# Altium schematic symbol library libSCH.SchLib: 587 symbols (part 5 of 5)
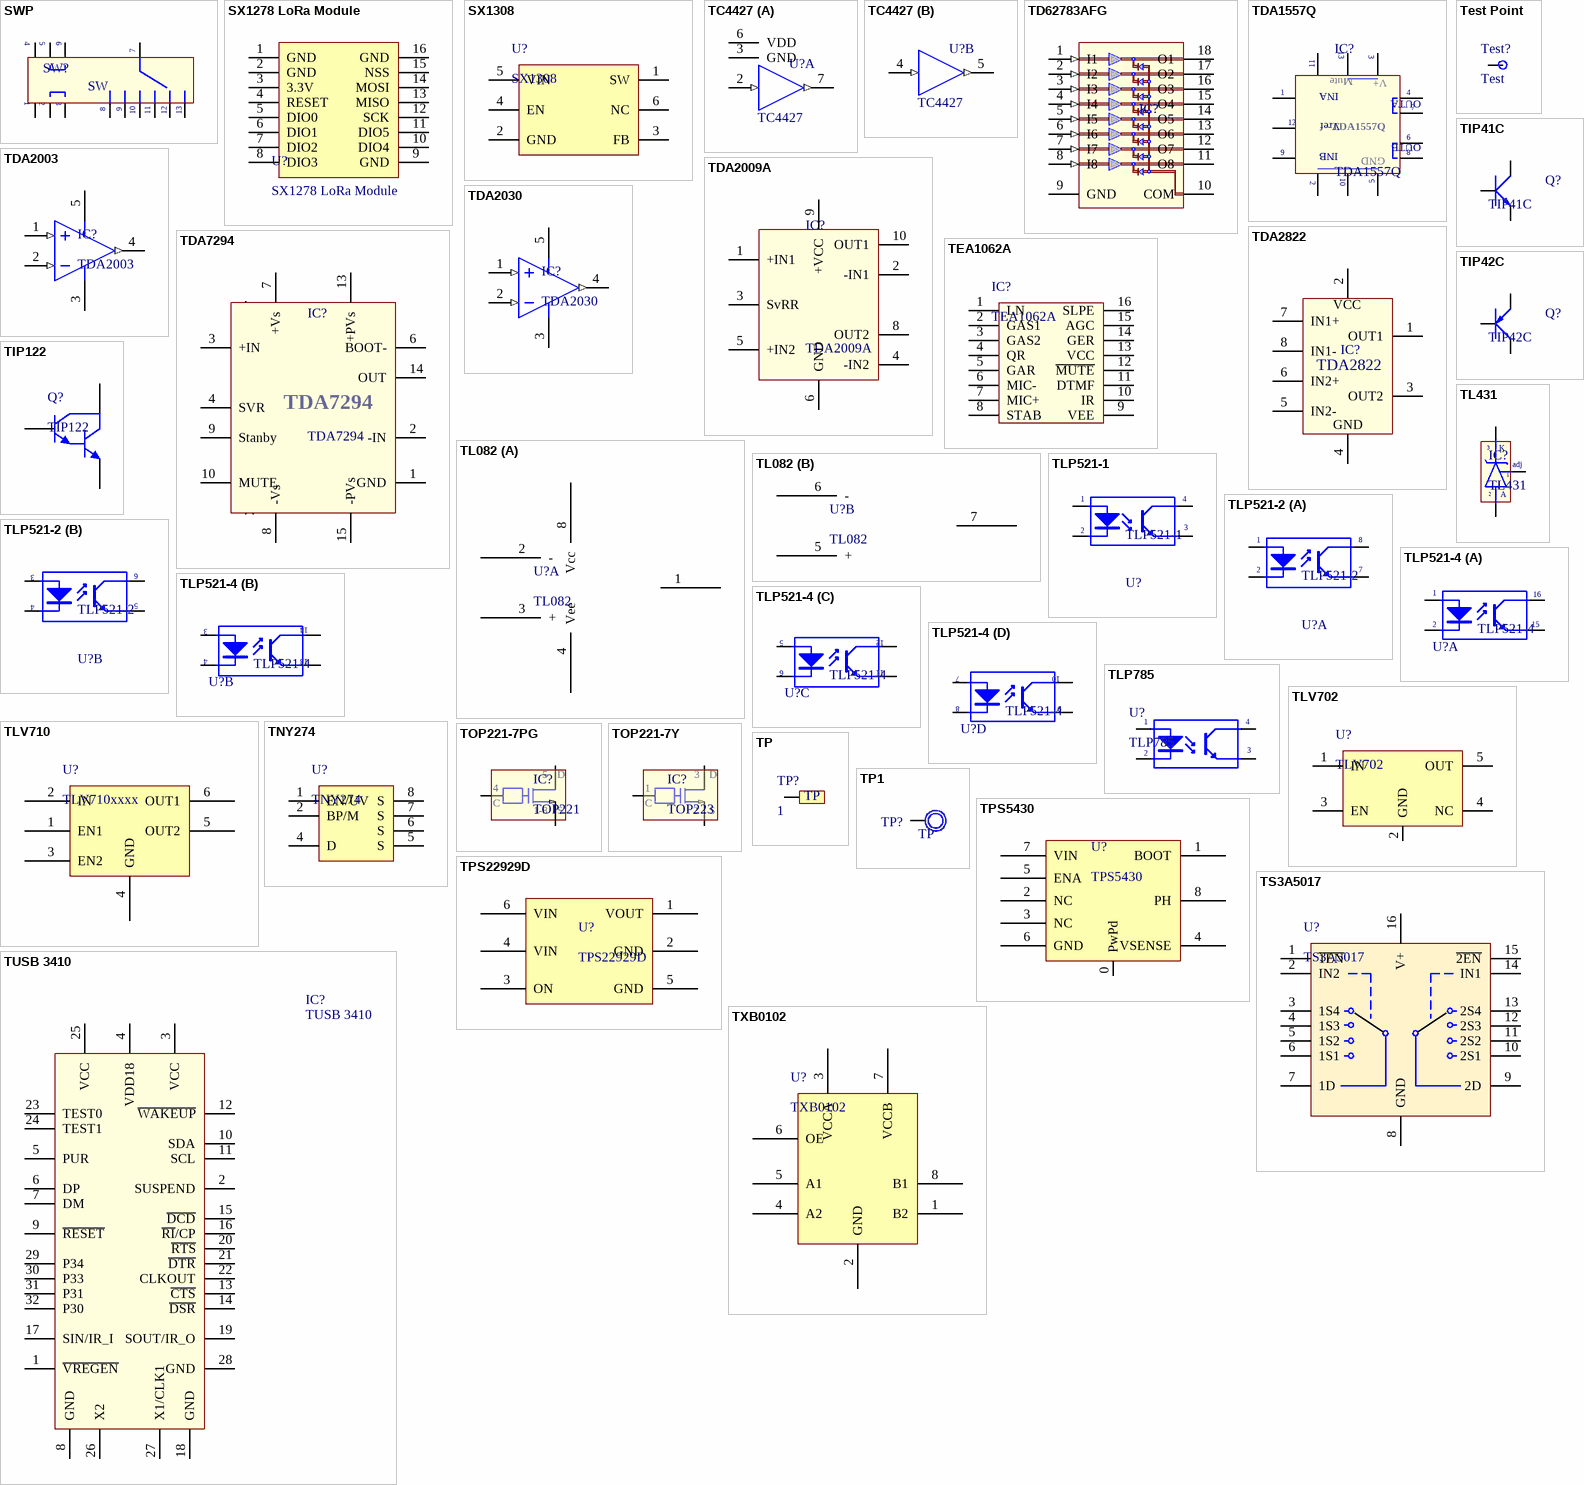
[diagram p29: symbols SWP to TXB0102]

## TUSB 3410
designator IC?
USB to RS232 Converter; Value: TUSB 3410
footprint QFP7X7-G32/X.45N (QFP; 32 Leads; Body 7 x 7 mm; Pitch 0.8 mm)
pins: 1 ~{VREGEN}, 2 SUSPEND, 3 VCC, 4 VDD18, 5 PUR, 6 DP, 7 DM, 8 GND, 9 ~{RESET}, 10 SDA, 11 SCL, 12 ~{WAKEUP}, 13 ~{CTS}, 14 ~{DSR}, 15 ~{DCD}, 16 ~{RI}/CP, 17 SIN/IR_I, 18 GND, 19 SOUT/IR_O, 20 ~{RTS}, 21 ~{DTR}, 22 CLKOUT, 23 TEST0, 24 TEST1, 25 VCC, 26 X2, 27 X1/CLK1, 28 GND, 29 P34, 30 P33, 31 P31, 32 P30

## TXB0102
designator U?
2-Bit Bidirectional Voltage-Level Translator With Auto Direction Sensing and  ±15-kV ESD Protection; Manufacture: Texas Instruments; Unit Price: *; Value: *; Supplier: *
footprint VSSOP (DCU)
footprint DSBGA(YZT) 4x2- 0.5
pins: 1 B2, 2 GND, 3 VCCA, 4 A2, 5 A1, 6 OE, 7 VCCB, 8 B1

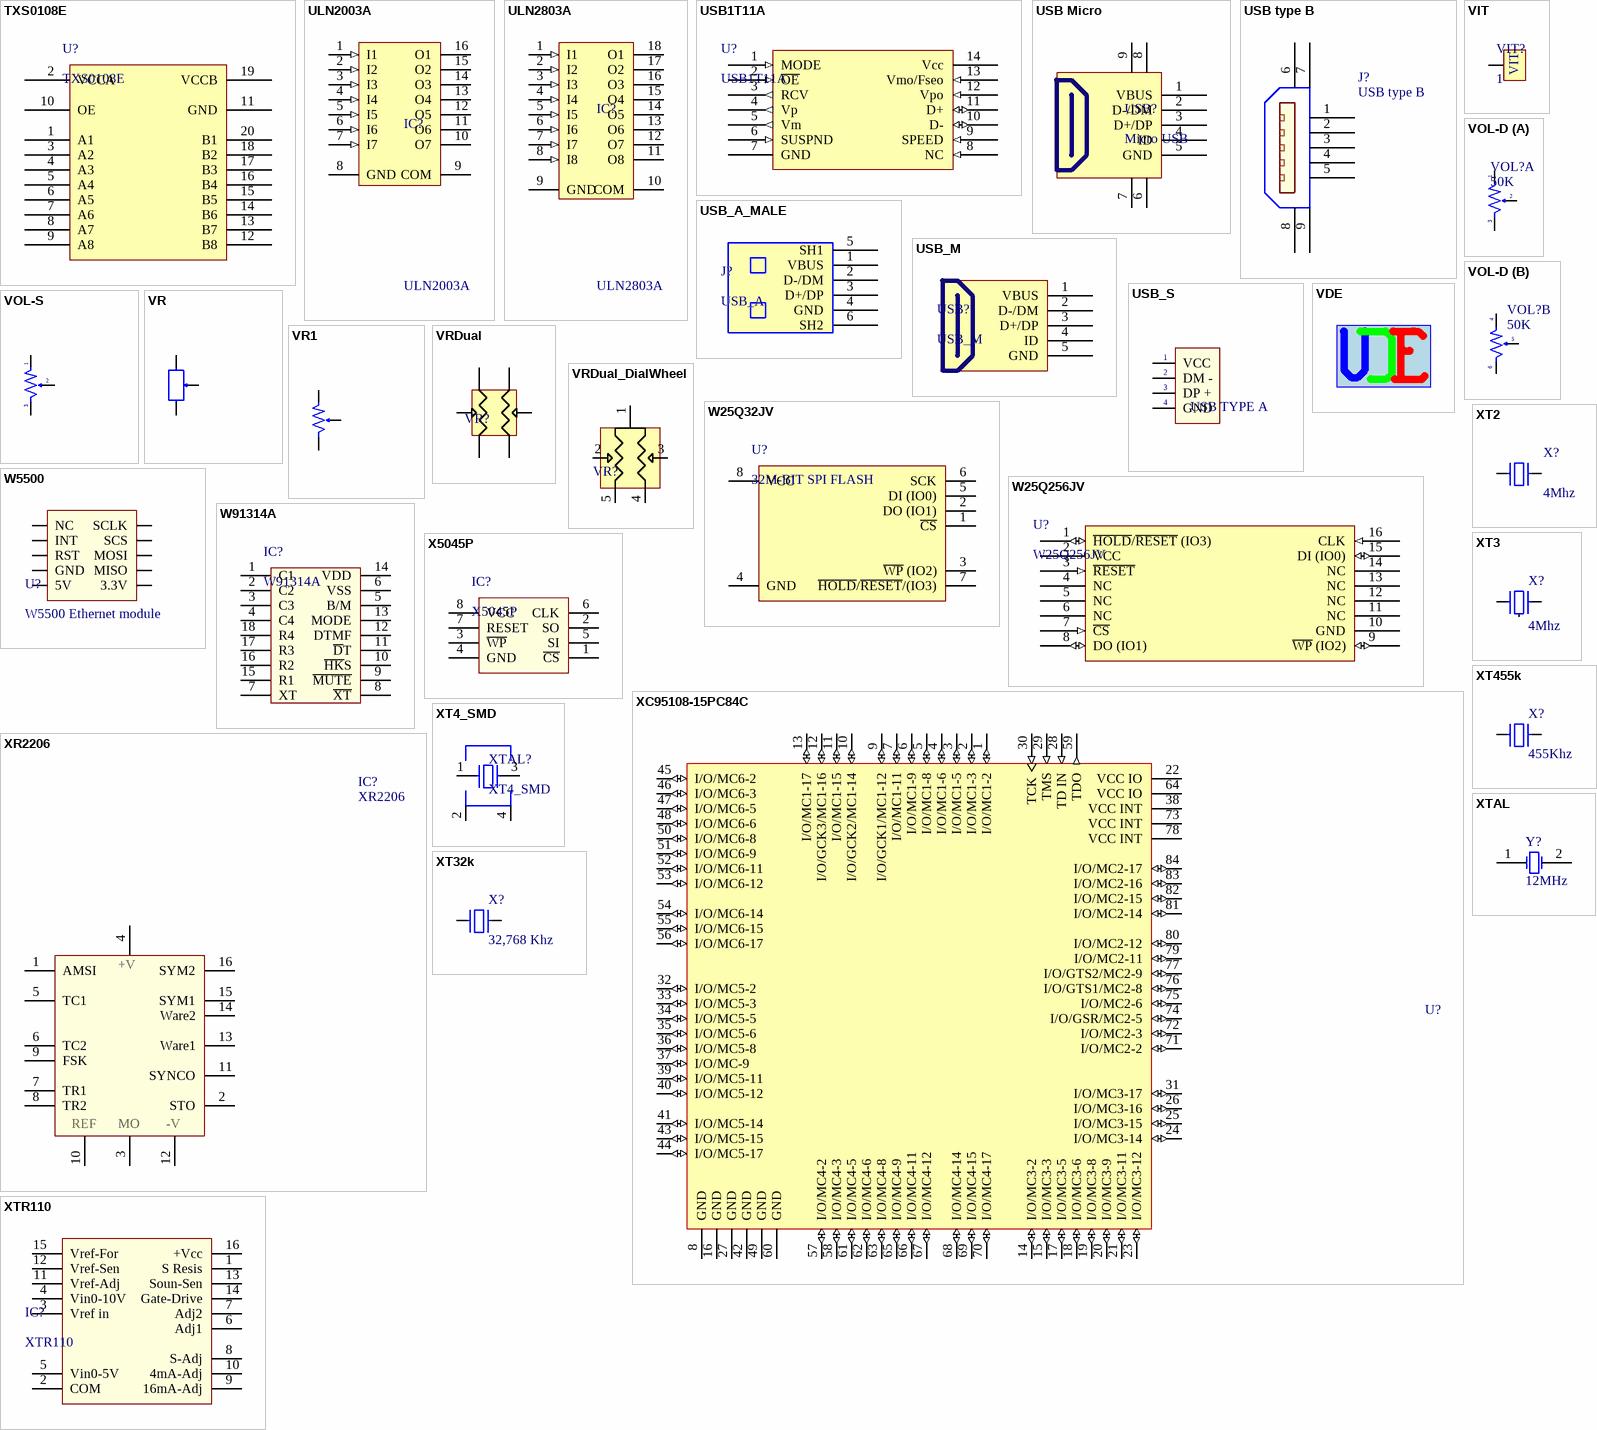
[diagram p24: symbols TXS0108E to XTR110]

## TXS0108E
designator U?
TXS0108E 8-Bit Bi-directional, Level-Shifting, Voltage Translator / for Open-Drain and Push-Pull Applications
footprint TSSOP20 (20-lead thin shrink small outline, 6.5 x 4.4 mm, 0.65 mm pitch)
pins: 1 A1, 2 VCCA, 3 A2, 4 A3, 5 A4, 6 A5, 7 A6, 8 A7, 9 A8, 10 OE, 11 GND, 12 B8, 13 B7, 14 B6, 15 B5, 16 B4, 17 B3, 18 B2, 19 VCCB, 20 B1

## ULN2003A
designator IC?
High-Voltage, High-Current Darlington Array; LatestRevisionNote: Stylized 3D Model Added.; Publisher: Altium Limited; Value: ULN2003A
footprint DIP16/W0.3 (16 PIN, W 300mil, Pin to pin 100mil)
footprint SO-G16/X.6 (Small Outline; 16 Leads; Body Width 5.3 mm; Pitch 1.27 mm)
pins: 1 I1 (in), 2 I2 (in), 3 I3 (in), 4 I4 (in), 5 I5 (in), 6 I6 (in), 7 I7 (in), 8 GND (power), 9 COM, 10 O7 (oc), 11 O6 (oc), 12 O5 (oc), 13 O4 (oc), 14 O3 (oc), 15 O2 (oc), 16 O1 (oc)

## ULN2803A
designator IC?
High-Voltage, High-Current Darlington Array; LatestRevisionNote: Stylized 3D Model Added.; Publisher: Altium Limited; Value: ULN2803A
footprint DIP18/W0.3 (18 PIN, W 300mil, Pin to pin 100mil)
pins: 1 I1 (in), 2 I2 (in), 3 I3 (in), 4 I4 (in), 5 I5 (in), 6 I6 (in), 7 I7 (in), 8 I8 (in), 9 GND (power), 10 COM, 11 O8 (oc), 12 O7 (oc), 13 O6 (oc), 14 O5 (oc), 15 O4 (oc), 16 O3 (oc), 17 O2 (oc), 18 O1 (oc)

## USB1T11A
designator U?
Universal Serial Bus Transceiver
footprint SOIC-14
pins: 1 MODE (in), 2 ~{OE} (in), 3 RCV (out), 4 Vp (out), 5 Vm (out), 6 SUSPND (in), 7 GND (power), 8 NC (in), 9 SPEED (in), 10 D- (io), 11 D+ (io), 12 Vpo (in), 13 Vmo/Fseo (in), 14 Vcc (power)

## USB Micro
designator USB?, comment Micro USB
footprint MicroUSB-FM-V1 (Micro USB 5-PIN SMD Female Type-B and 4-Pin DIP connector)
footprint MICROUSB
footprint MICROUSB - v2
pins: 1 VBUS, 2 D-/DM, 3 D+/DP, 4 ID, 5 GND, 6 SH, 7 SH, 8 SH, 9 SH

## USB type B
designator J?
Manuf. Part No: 10103594-0001LF; Manufacturer: FCI
footprint MICROUSB
footprint MICROUSB - v2
footprint MicroUSB-FM-V1 (Micro USB 5-PIN SMD Female Type-B and 4-Pin DIP connector)
pins: 1 P1, 2 P2, 3 P3, 4 P4, 5 P5, 6 SH1, 7 SH2, 8 SH3, 9 SH4

## USB_A_MALE
designator J?, comment USB_A
footprint USB-A
footprint USB_A_SMD (For USB SMD)
pins: 1 VBUS, 2 D-/DM, 3 D+/DP, 4 GND, 5 SH1, 6 SH2

## USB_M
designator USB?
footprint USB_B_MINI
footprint USB_B_MINI_SMD
pins: 1 VBUS, 2 D-/DM, 3 D+/DP, 4 ID, 5 GND

## USB_S
designator U?, comment USB TYPE A
USB connector type A; Value: USB
footprint USB-S2 (USB B connector, 4pin, For Print)
footprint USB-S1 (USB A connector, 4pin, For USB sing)
footprint USB-M (For USB SMD)
footprint USB type A - FEMALE (Female 90*)
pins: 1 VCC, 2 DM -, 3 DP +, 4 GND

## VDE
designator VDE  (value not drawn)
VanDungEvn
footprint VDE (VDE - SM)

## VIT
designator VIT?, comment 1
Oc Vit
footprint VIT
pins: VIT1 1

## VOL-D
designator VOL?, comment 50K
Volume control Dual; Value: Volume Dual 50K
footprint VOL-D (Volume control Dual)
part A pins: 1, 2, 3
part B pins: 4, 5, 6

## VOL-S
designator VOL?, comment 50K
Var Resistor; Value: Volume 50k
footprint VOL-S (Volume control single)
footprint VOL_SMD
pins: 1, 2, 3

## VR
designator VR?, comment 10K
Var Resistor; Value: VR 10K
footprint VR1 (Variable Resistor)
footprint VR (Resistor Variable)
footprint VR2
pins: 1, 2, 3

## VR1
designator VR?, comment 10K
Var Resistor; Value: VR 10K
footprint VR1 (Variable Resistor)
footprint VR (Resistor Variable)
footprint VR2
pins: 1, 2, 3

## VRDual
designator VR?  (value not drawn)
footprint VOL-D (Volume control Dual)
pins: 1, 2, 3, 4, 5, 6

## VRDual_DialWheel
designator VR?  (value not drawn)
footprint VRDual_DialWheel
pins: 1, 2, 3, 4, 5

## W25Q32JV
designator U?, comment 32M-BIT SPI FLASH
3V 32M-BIT / SERIAL FLASH MEMORY WITH / DUAL, QUAD SPI
footprint SOP8
footprint VSOP-8
pins: 1 ~{CS}, 2 DO (IO1), 3 ~{WP} (IO2), 4 GND, 5 DI (IO0), 6 SCK, 7 ~{HOLD}/~{RESET}/(IO3), 8 VCC

## W25Q256JV
designator U?
3V 256M-BIT / SERIAL FLASH MEMORY WITH / DUAL/QUAD SPI
footprint SOIC-16 300mils
pins: 1 ~{HOLD}/~{RESET} (IO3) (io), 2 VCC (power), 3 ~{RESET} (in), 4 NC, 5 NC, 6 NC, 7 ~{CS} (in), 8 DO (IO1) (io), 9 ~{WP} (IO2) (io), 10 GND (power), 11 NC, 12 NC, 13 NC, 14 NC, 15 DI (IO0) (io), 16 CLK (in)

## W5500
designator U?, comment W5500 Ethernet module
footprint W5500 module
pins: 1 NC, 2 SCLK, 3 INT, 4 SCS, 5 RST, 6 MOSI, 7 GND, 8 MISO, 9 5V, 10 3.3V

## W91314A
designator IC?
TONE/PULSE DIALER WITH  REDIAL FUNCTION; Creat by: VanDungEvn@Gmail.com
footprint DIP18/W0.3 (18 PIN, W 300mil, Pin to pin 100mil)
pins: 1 C1, 2 C2, 3 C3, 4 C4, 5 B/M, 6 VSS, 7 XT, 8 ~{XT}, 9 ~{MUTE}, 10 ~{HK}S, 11 ~{D}T, 12 DTMF, 13 MODE, 14 VDD, 15 R1, 16 R2, 17 R3, 18 R4

## X5045P
designator IC?
4K SPI EEPROM
footprint DIP8/W0.3 (8 PIN, W 300mil, Pin to pin 100mil)
pins: 1 ~{CS}, 2 SO, 3 ~{WP}, 4 GND, 5 SI, 6 CLK, 7 RESET, 8 VCC

## XC95108-15PC84C
designator U?  (value not drawn)
Programmable CPLD; Class I: Programmable Logic Device; Class II: XC9500; Revision: 17-Jul-2002: Re-released for DXP Platform.; Value: XC95108
pins: 1 I/O/MC1-2 (io), 2 I/O/MC1-3 (io), 3 I/O/MC1-5 (io), 4 I/O/MC1-6 (io), 5 I/O/MC1-8 (io), 6 I/O/MC1-9 (io), 7 I/O/MC1-11 (io), 8 GND (power), 9 I/O/GCK1/MC1-12 (io), 10 I/O/GCK2/MC1-14 (io), 11 I/O/MC1-15 (io), 12 I/O/GCK3/MC1-16 (io), 13 I/O/MC1-17 (io), 14 I/O/MC3-2 (io), 15 I/O/MC3-3 (io), 16 GND (power), 17 I/O/MC3-5 (io), 18 I/O/MC3-6 (io), 19 I/O/MC3-8 (io), 20 I/O/MC3-9 (io), 21 I/O/MC3-11 (io), 22 VCC IO (power), 23 I/O/MC3-12 (io), 24 I/O/MC3-14 (io), 25 I/O/MC3-15 (io), 26 I/O/MC3-16 (io), 27 GND (power), 28 TD IN (in), 29 TMS (in), 30 TCK (in), 31 I/O/MC3-17 (io), 32 I/O/MC5-2 (io), 33 I/O/MC5-3 (io), 34 I/O/MC5-5 (io), 35 I/O/MC5-6 (io), 36 I/O/MC5-8 (io), 37 I/O/MC-9 (io), 38 VCC INT (power), 39 I/O/MC5-11 (io), 40 I/O/MC5-12 (io), 41 I/O/MC5-14 (io), 42 GND (power), 43 I/O/MC5-15 (io), 44 I/O/MC5-17 (io), 45 I/O/MC6-2 (io), 46 I/O/MC6-3 (io), 47 I/O/MC6-5 (io), 48 I/O/MC6-6 (io), 49 GND (power), 50 I/O/MC6-8 (io), 51 I/O/MC6-9 (io), 52 I/O/MC6-11 (io), 53 I/O/MC6-12 (io), 54 I/O/MC6-14 (io), 55 I/O/MC6-15 (io), 56 I/O/MC6-17 (io), 57 I/O/MC4-2 (io), 58 I/O/MC4-3 (io), 59 TDO (out), 60 GND (power), 61 I/O/MC4-5 (io), 62 I/O/MC4-6 (io), 63 I/O/MC4-8 (io), 64 VCC IO (power), 65 I/O/MC4-9 (io), 66 I/O/MC4-11 (io), 67 I/O/MC4-12 (io), 68 I/O/MC4-14 (io), 69 I/O/MC4-15 (io), 70 I/O/MC4-17 (io), 71 I/O/MC2-2 (io), 72 I/O/MC2-3 (io), 73 VCC INT (power), 74 I/O/GSR/MC2-5 (io), 75 I/O/MC2-6 (io), 76 I/O/GTS1/MC2-8 (io), 77 I/O/GTS2/MC2-9 (io), 78 VCC INT (power), 79 I/O/MC2-11 (io), 80 I/O/MC2-12 (io), 81 I/O/MC2-14 (io), 82 I/O/MC2-15 (io), 83 I/O/MC2-16 (io), 84 I/O/MC2-17 (io)

## XR2206
designator IC?
OSC Sine - Square - Triangle; Value: DIP 16; Value: XR2206
footprint DIP16/W0.3 (16 PIN, W 300mil)
pins: 1 AMSI, 2 STO, 3 MO, 4 +V, 5 TC1, 6 TC2, 7 TR1, 8 TR2, 9 FSK, 10 REF, 11 SYNCO, 12 -V, 13 Ware1, 14 Ware2, 15 SYM1, 16 SYM2

## XT2
designator X?, comment 4Mhz
Crystal For all Crystal 2pin.; Value: 4Mhz
footprint XT2 (Footpin for Crystal 2 pin)
footprint XT2N (Crystal 2pin, high 200 mil)
footprint XT2_5032
pins: 1, 2

## XT3
designator X?, comment 4Mhz
Crystal For all Crystal 2pin.; Value: 4Mhz
footprint XT3 (Crystal 3pin, High 200mil, Cremic)
footprint XT3_3213 (Resonator 3213 3 pin)
pins: 1, 2, 3

## XT4_SMD
designator XTAL?
4 pin crystal surface mount
footprint XT4-3.2x2.5
footprint XT4-5.0x3.2
footprint XT4-2520
footprint XTAL - 3.2 x 2.5 x 1.05 mm
pins: 1, 2, 3, 4

## XT32k
designator X?, comment 32,768 Khz
Crystal 32,768kHz for timer real; Value: 32,768khz
footprint XT32k (Crystal 32k, 2 pin, real timer for DS1307)
footprint X32K_C3215 (32.768KHz Crystal C3215 SMD)
pins: 1, 2

## XT455k
designator X?, comment 455Khz
Crystal 455kHz Infrared; Value: 32,768khz
footprint XT455k (Thach anh 455khz (Infrared))
footprint XT455KN (Thach anh 455khz (Infrared))
pins: 1, 2

## XTAL
designator Y?, comment 12MHz
Crystal Oscillator; Published: 8-Jun-2000; LatestRevisionDate: 17-Jul-2002; LatestRevisionNote: Re-released for DXP Platform.; PackageReference: R38; Publisher: Altium Limited; PackageDescription: Crystal, Thru-Hole; 2 Leads; Body 3.1 x 8.2 mm (Dia.xH)
footprint R38 (Crystal, Thru-Hole; 2 Leads; Body 3.1 x 8.2 mm (Dia.xH))
simulation model XTAL (Spice Subcircuit)
footprint XT2 (Footpin for Crystal 2 pin)
pins: 1 OSC1, 2 OSC2

## XTR110
designator IC?
PRECISION VOLTAGE-TO-CURREN  CONVERTER/TRANSMITTER; Designed by: VanDungEvn; Value: XTR110
footprint DIP16/W0.3 (16 PIN, W 300mil, Pin to pin 100mil)
pins: 1 S Resis, 2 COM, 3 Vref in, 4 Vin0-10V, 5 Vin0-5V, 6 Adj1, 7 Adj2, 8 S-Adj, 9 16mA-Adj, 10 4mA-Adj, 11 Vref-Adj, 12 Vref-Sen, 13 Soun-Sen, 14 Gate-Drive, 15 Vref-For, 16 +Vcc

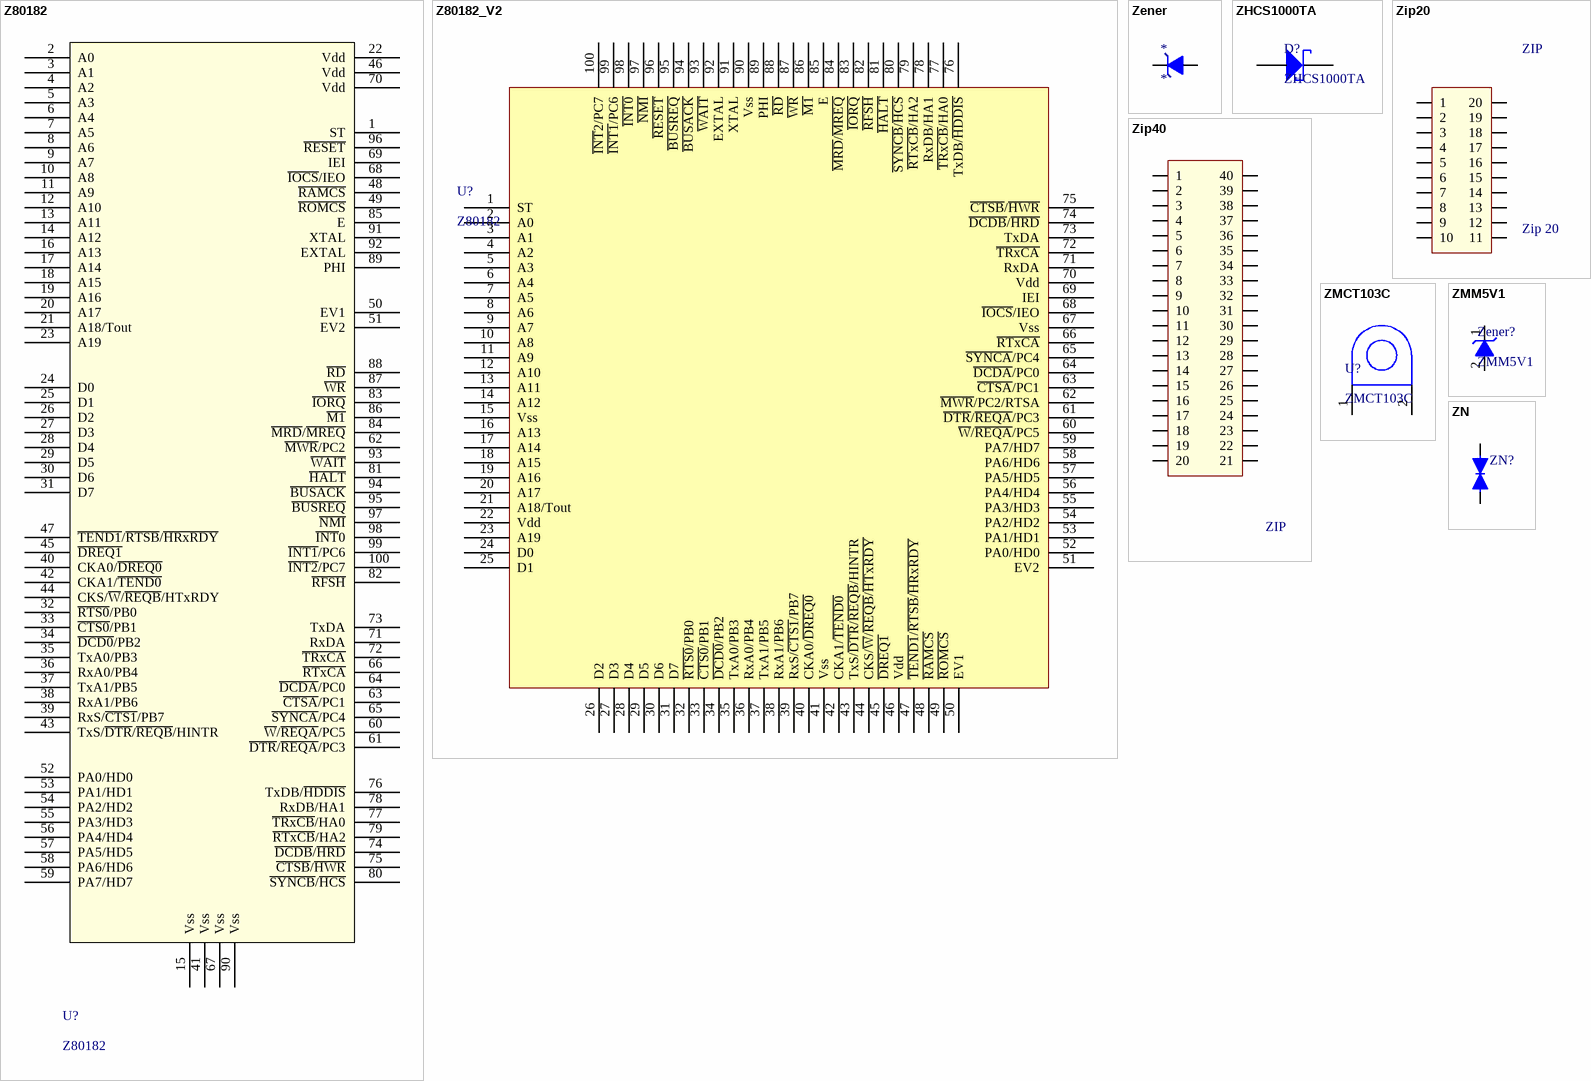
[diagram p25: symbols Z80182 to ZN]

## Z80182
designator U?
ZILOG INTELLIGENT PERIPHERAL / CONTROLLER
footprint VQFP100
pins: 1 ST, 2 A0, 3 A1, 4 A2, 5 A3, 6 A4, 7 A5, 8 A6, 9 A7, 10 A8, 11 A9, 12 A10, 13 A11, 14 A12, 15 Vss, 16 A13, 17 A14, 18 A15, 19 A16, 20 A17, 21 A18/Tout, 22 Vdd, 23 A19, 24 D0, 25 D1, 26 D2, 27 D3, 28 D4, 29 D5, 30 D6, 31 D7, 32 ~{RTS0}/PB0, 33 ~{CTS0}/PB1, 34 ~{DCD0}/PB2, 35 TxA0/PB3, 36 RxA0/PB4, 37 TxA1/PB5, 38 RxA1/PB6, 39 RxS/~{CTS1}/PB7, 40 CKA0/~{DREQ0}, 41 Vss, 42 CKA1/~{TEND0}, 43 TxS/~{DTR}/~{REQB}/HINTR, 44 CKS/~{W}/~{REQB}/HTxRDY, 45 ~{DREQ1}, 46 Vdd, 47 ~{TEND1}/~{RTSB}/~{HRxRDY}, 48 ~{RAMCS}, 49 ~{ROMCS}, 50 EV1, 51 EV2, 52 PA0/HD0, 53 PA1/HD1, 54 PA2/HD2, 55 PA3/HD3, 56 PA4/HD4, 57 PA5/HD5, 58 PA6/HD6, 59 PA7/HD7, 60 ~{W}/~{REQA}/PC5, 61 ~{DTR}/~{REQA}/PC3, 62 ~{MWR}/PC2, 63 ~{CTSA}/PC1, 64 ~{DCDA}/PC0, 65 ~{SYNCA}/PC4, 66 ~{RTxCA}, 67 Vss, 68 ~{IOCS}/IEO, 69 IEI, 70 Vdd, 71 RxDA, 72 ~{TRxCA}, 73 TxDA, 74 ~{DCDB}/~{HRD}, 75 ~{CTSB}/~{HWR}, 76 TxDB/~{HDDIS}, 77 ~{TRxCB}/HA0, 78 RxDB/HA1, 79 ~{RTxCB}/HA2, 80 ~{SYNCB}/~{HCS}, 81 ~{HALT}, 82 ~{RFSH}, 83 ~{IORQ}, 84 ~{MRD}/~{MREQ}, 85 E, 86 ~{M1}, 87 ~{WR}, 88 ~{RD}, 89 PHI, 90 Vss, 91 XTAL, 92 EXTAL, 93 ~{WAIT}, 94 ~{BUSACK}, 95 ~{BUSREQ}, 96 ~{RESET}, 97 ~{NMI}, 98 ~{INT}0, 99 ~{INT1}/PC6, 100 ~{INT2}/PC7

## Z80182_V2
designator U?, comment Z80182
ZILOG INTELLIGENT PERIPHERAL / CONTROLLER
footprint VQFP100
pins: 1 ST, 2 A0, 3 A1, 4 A2, 5 A3, 6 A4, 7 A5, 8 A6, 9 A7, 10 A8, 11 A9, 12 A10, 13 A11, 14 A12, 15 Vss, 16 A13, 17 A14, 18 A15, 19 A16, 20 A17, 21 A18/Tout, 22 Vdd, 23 A19, 24 D0, 25 D1, 26 D2, 27 D3, 28 D4, 29 D5, 30 D6, 31 D7, 32 ~{RTS0}/PB0, 33 ~{CTS0}/PB1, 34 ~{DCD0}/PB2, 35 TxA0/PB3, 36 RxA0/PB4, 37 TxA1/PB5, 38 RxA1/PB6, 39 RxS/~{CTS1}/PB7, 40 CKA0/~{DREQ0}, 41 Vss, 42 CKA1/~{TEND0}, 43 TxS/~{DTR}/~{REQB}/HINTR, 44 CKS/~{W}/~{REQB}/~{HTxRDY}, 45 ~{DREQ1}, 46 Vdd, 47 ~{TEND1}/~{RTSB}/~{HRxRDY}, 48 ~{RAMCS}, 49 ~{ROMCS}, 50 EV1, 51 EV2, 52 PA0/HD0, 53 PA1/HD1, 54 PA2/HD2, 55 PA3/HD3, 56 PA4/HD4, 57 PA5/HD5, 58 PA6/HD6, 59 PA7/HD7, 60 ~{W}/~{REQA}/PC5, 61 ~{DTR}/~{REQA}/PC3, 62 ~{MWR}/PC2/RTSA, 63 ~{CTSA}/PC1, 64 ~{DCDA}/PC0, 65 ~{SYNCA}/PC4, 66 ~{RTxCA}, 67 Vss, 68 ~{IOCS}/IEO, 69 IEI, 70 Vdd, 71 RxDA, 72 ~{TRxCA}, 73 TxDA, 74 ~{DCDB}/~{HRD}, 75 ~{CTSB}/~{HWR}, 76 TxDB/~{HDDIS}, 77 ~{TRxCB}/HA0, 78 RxDB/HA1, 79 ~{RTxCB}/HA2, 80 ~{SYNCB}/~{HCS}, 81 ~{HALT}, 82 ~{RFSH}, 83 ~{IORQ}, 84 ~{MRD}/~{MREQ}, 85 E, 86 ~{M1}, 87 ~{WR}, 88 ~{RD}, 89 PHI, 90 Vss, 91 XTAL, 92 EXTAL, 93 ~{WAIT}, 94 ~{BUSACK}, 95 ~{BUSREQ}, 96 ~{RESET}, 97 ~{NMI}, 98 ~{INT0}, 99 ~{INT1}/PC6, 100 ~{INT}2/PC7

## Zener
designator *
footprint D1A (Diode 1A, W 100mil, L 350mil)
pins: 1 A, 2 K

## ZHCS1000TA
designator D?
1A/40V Schottky Barrier Diode
footprint SOT23 (SOT 23 _ 1-3-2)
pins: 1 A, 3 K

## Zip20
designator ZIP, comment Zip 20
De 20 pin; Value: Gat 20 pin
footprint ZIP20 (DIP 20, W 600mil/ L 1600mil)
footprint DIP20/W0.3 (DIP 20, 20 PIN, W 300mil, Pin to pin 100mil)
pins: 1, 2, 3, 4, 5, 6, 7, 8, 9, 10, 11, 12, 13, 14, 15, 16, 17, 18, 19, 20

## Zip40
designator ZIP, comment Zip 40  (value not drawn)
De 40 pin; Value: Gat 40 pin
footprint ZIP40 (40 PIN, W 900 mil , L 2600 mil , Push Pro FOR Chip)
footprint DIP40/W0.6 (40 PIN, W 600mil, Pin to pin 100mil)
footprint DIP40/W0.3 (40 PIN, W 300mil, Pin to pin 100mil)
pins: 1, 2, 3, 4, 5, 6, 7, 8, 9, 10, 11, 12, 13, 14, 15, 16, 17, 18, 19, 20, 21, 22, 23, 24, 25, 26, 27, 28, 29, 30, 31, 32, 33, 34, 35, 36, 37, 38, 39, 40

## ZMCT103C
designator U?
Current sensor 20A/20mA
footprint ZMCT103C (Current sensor)
pins: 1, 2

## ZMM5V1
designator Zener?
DIODE ZENER 5V1 500MW SOD-80
footprint SOD-80
pins: 1 K, 2 A

## ZN
designator ZN?, comment Z  (value not drawn)
Zenner Protect AC in; Value: Zenner Protect AC input
footprint CN4 (Cap np W 0.4)
pins: 1, 2